# Altium schematic symbol library 0603B222K500NT_2026-07-12(1).SCHLIB: 1 symbol
Pins are listed as number, name and electrical type; pins without a type are passive.

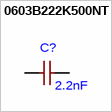
[diagram p0: symbol 0603B222K500NT]

## 0603B222K500NT
designator C?, comment 2.2nF
footprint C0603
pins: 1, 2